# EAGLE library part ATTINY25/45/85 (library ds_ic_mcu)
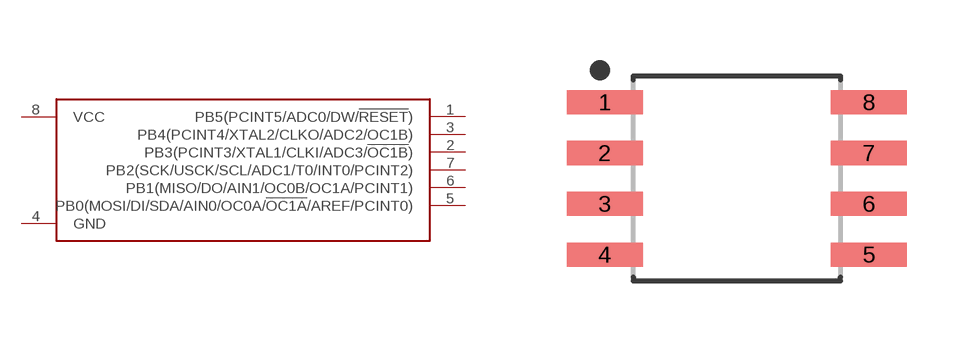
[diagram p3: symbol with the pads of SOIC127P770X170-8N; footprint SOIC127P770X170-8N]

Designator prefix -

## ATTINY25/45/85SO8  [SOIC127P770X170-8N]
1  PB5(PCINT5/ADC0/DW/!RESET!)
2  PB3(PCINT3/XTAL1/CLKI/ADC3/!OC1B!)
3  PB4(PCINT4/XTAL2/CLKO/ADC2/OC1B)
4  GND  pwr
5  PB0(MOSI/DI/SDA/AIN0/OC0A/!OC1A!/AREF/PCINT0)
6  PB1(MISO/DO/AIN1/OC0B/OC1A/PCINT1)
7  PB2(SCK/USCK/SCL/ADC1/T0/INT0/PCINT2)
8  VCC  pwr

## Footprint SOIC127P770X170-8N (pad centres in mm)
8-SOIC, 1.27 mm pitch, 7.70 mm span, 5.13 X 5.18 X 1.70 mm body 8-pin SOIC package with 1.27 mm pitch, 7.70 mm span with body size 5.13 X 5.18 X 1.70 mm
smd 1.901 x 0.602: 1 -3.305,1.905; 2 -3.305,0.635; 3 -3.305,-0.635; 4 -3.305,-1.905; 5 3.305,-1.905; 6 3.305,-0.635; 7 3.305,0.635; 8 3.305,1.905